# EAGLE library part CSM-57141 (library DL110)
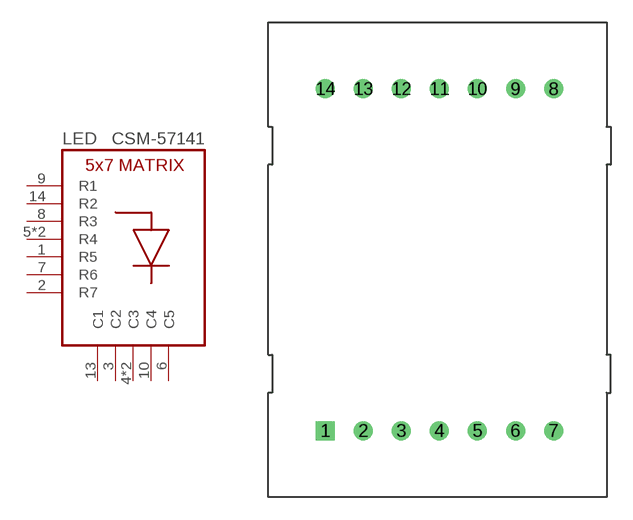
[diagram p1: symbol with the pads of CSM-57141; footprint CSM-57141]

Designator prefix LED

## CSM-57141  [CSM-57141]
1  R5  in
2  R7  in
3  C2  out
4  C3  out
5  R4  in
6  C5  out
7  R6  in
8  R3  in
9  R1  in
10  C4  out
11  C3  out
12  R4  in
13  C1  out
14  R2  in

## Footprint CSM-57141 (pad centres in mm)
drill 0.6 pad 1.27 square: 1 -7.62,-11.43
drill 0.6 pad 1.27: 2 -5.08,-11.43; 3 -2.54,-11.43; 4 0,-11.43; 5 2.54,-11.43; 6 5.08,-11.43; 7 7.62,-11.43; 8 7.62,11.43; 9 5.08,11.43; 10 2.54,11.43; 11 0,11.43; 12 -2.54,11.43; 13 -5.08,11.43; 14 -7.62,11.43